# EAGLE library part PHPT60415NYX (library PHPT60415NYX)
Bipolar Transistors - BJT 15A NPN High Power Bipolar Transistor Source: Datasheet <https://assets.nexperia.com/documents/data-sheet/PHPT60415NY.pdf>
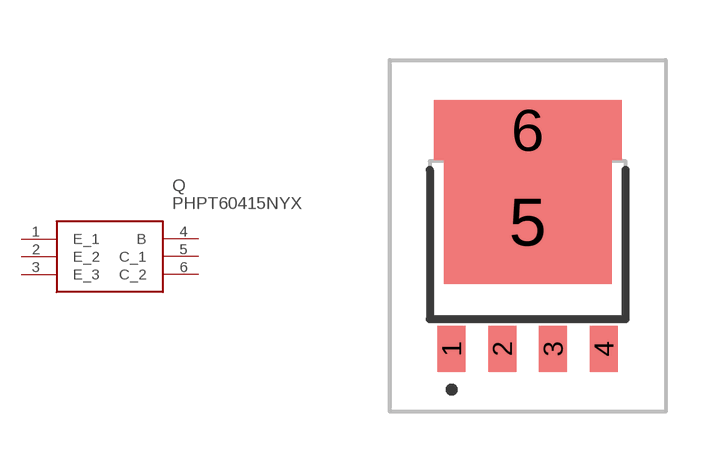
[diagram p0: symbol with the pads of PHPT60415NYX; footprint PHPT60415NYX]

Designator prefix Q

## PHPT60415NYX (Description: Bipolar Transistors - BJT 15A NPN High Power Bipolar Transistor; Height: 1.2mm; Manufacturer_Name: Nexperia; Manufacturer_Part_Number: PHPT60415NYX)  [PHPT60415NYX]
1  E_1
2  E_2
3  E_3
4  B
5  C_1
6  C_2

## Footprint PHPT60415NYX (pad centres in mm)
PHPT60415NYX-3
smd 0.7 x 1.15: 1 -1.905,-2.725; 2 -0.635,-2.725; 3 0.635,-2.725; 4 1.905,-2.725
smd 4.2 x 3.1: 5 0,0.45
smd 4.7 x 1.5: 6 0,2.75